# Altium footprint library Con DIN Circular.PcbLib: 41 footprints (part 3 of 3)
Each footprint in its own frame and in the unit in brackets; x right, y up, seen from the top. Pads: shape width x height; smd on the part's side, far side on the other; paste and mask are expansions set on the pad; w line width, h text height; cw(c..) or ccw(c..) is an arc to the next point about the centre after c.
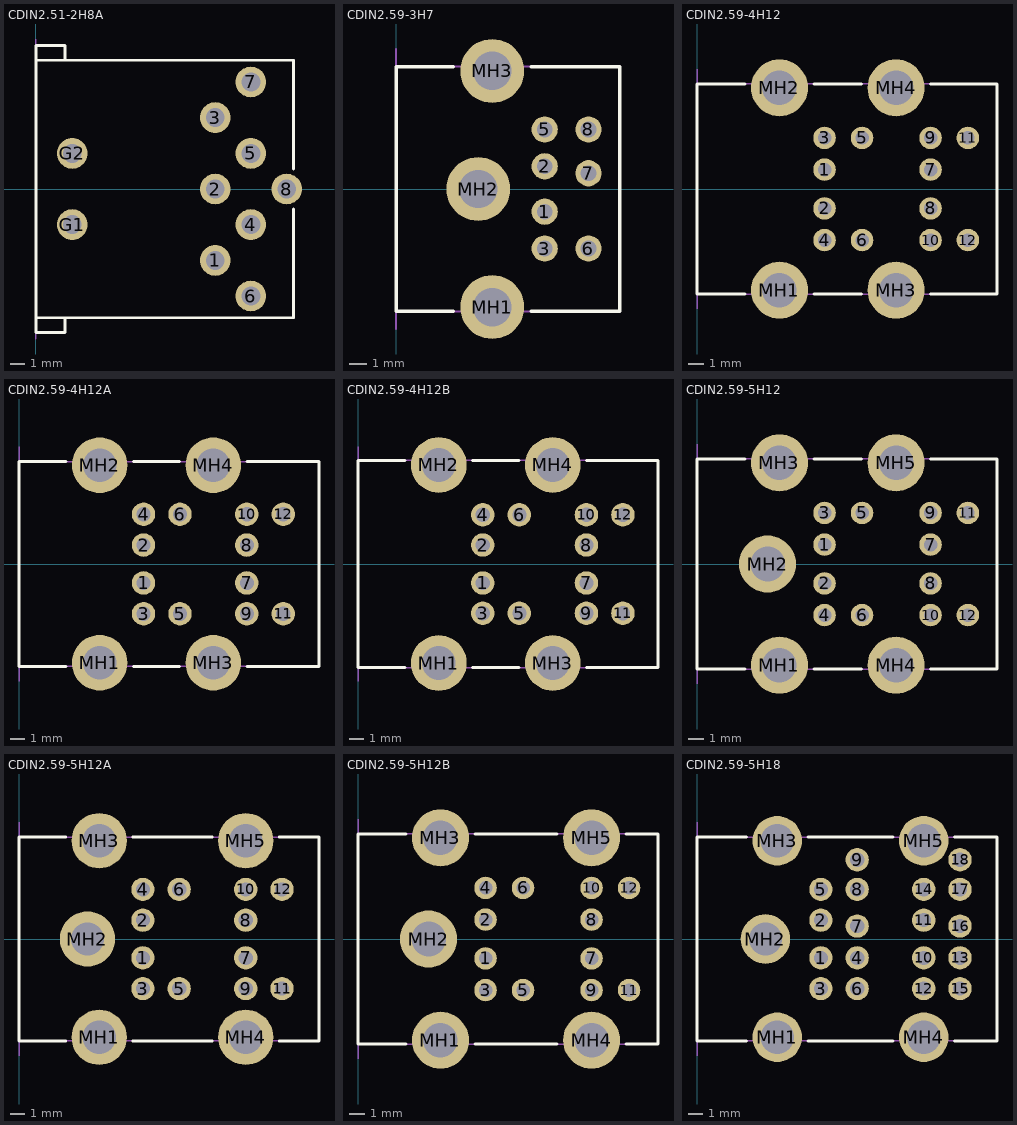
[diagram p2: the footprints below, top view; thin cyan lines are the x and y axes]

## CDIN2.51-2H8A [mm] "Connector; Circular DIN, Thru-Hole; 8 Position; Right Angle; Pitch 2.49/2.51 mm; Body 18.03 x 18.00 x 20.83 mm (WxTxH)"
height 20.83
pads (10):
  round 2.15 hole 1.32: 1(12.55,-5) 2(12.55,0) 3(12.55,5) 4(15.04,-2.49) 5(15.04,2.49) 6(15.04,-7.49) 7(15.04,7.49) 8(17.55,0) G1(2.54,-2.49) G2(2.54,2.49)
Top Overlay:
  lines w0.2: 2.03,-9.015 2.03,-10.035 0,-10.035 0,-9.015 ; 2.03,9.015 2.03,10.035 0,10.035 0,9.015 ; 18.03,-1.41 18.03,-9.015 0,-9.015 ; 18.03,1.41 18.03,9.015 0,9.015 ; 0,-9.015 0,9.015
Mechanical 1:
  lines w0.1: 0,-10.5 0,10.5
  text "PCB Edge" at 0.6,-8.6 h0.25

## CDIN2.59-3H7 [mm] "Connector; Circular DIN, Thru-Hole; 7 Position; Right Angle; Pitch 2.11/2.59 mm; Body 14 x 12.8 x 13 mm (WxTxH), Shielded"
height 13
pads (10):
  round 1.5 hole 0.9: 1(8.5,-1.295) 2(8.5,1.295) 3(8.5,-3.405) 5(8.5,3.405) 6(11,-3.405) 7(11,0.9) 8(11,3.405)
  round 3.65 hole 2.2: MH1(5.5,-6.75) MH2(4.7,0) MH3(5.5,6.75)
Top Overlay:
  lines w0.2: 3.275,-7 0,-7 0,7 3.275,7 ; 7.725,-6.99 12.8,-7 12.8,7 7.725,7
Mechanical 1:
  lines w0.1: 0,-8 0,8
  text "PCB Edge" at 0.6,-6.7 h0.25
Mechanical 13:
  lines w0.1: 0,-7 12.8,-7 12.8,7 0,7 0,-7
3D body: height 13, standoff 0, extent 0,-7 12.8,7

## CDIN2.59-4H12 [mm] "Connector; Circular DIN, Thru-Hole; 6x6 Position; Right Angle; Pitch 2.11/2.59 mm; Body 14 x 20 x 28.5 mm (WxTxH), Shielded"
height 28.5
pads (16):
  round 1.5 hole 0.9: 1(8.5,1.295) 2(8.5,-1.295) 3(8.5,3.405) 4(8.5,-3.405) 5(11,3.405) 6(11,-3.405) 7(15.57,1.295) 8(15.57,-1.295) 9(15.57,3.405) 10(15.57,-3.405) 11(18.06,3.405) 12(18.06,-3.405)
  round 3.8 hole 2.3: MH1(5.5,-6.75) MH2(5.5,6.75) MH3(13.27,-6.75) MH4(13.27,6.75)
Top Overlay:
  lines w0.2: 3.21,-7 0,-7 0,7 3.21,7 ; 7.81,-6.99 10.98,-6.99 ; 7.81,7 10.98,7 ; 15.58,-7 20,-7 20,7 15.58,7
Mechanical 1:
  lines w0.1: 0,-8 0,8
  text "PCB Edge" at 0.6,-6.7 h0.25
Mechanical 13:
  lines w0.1: 0,-7 0,7 20,7 20,-7 0,-7
3D body: height 28.5, standoff 0, extent 0,-7 20,7

## CDIN2.59-4H12A [mm] "Connector; Circular DIN, Thru-Hole; 6x6 Position; Right Angle; Pitch 2.11/2.59 mm; Body 14 x 20.5 x 28.62 mm (WxTxH), Shielded"
height 28.62
pads (16):
  round 1.6 hole 0.97: 1(8.51,-1.295) 2(8.51,1.295) 3(8.51,-3.405) 4(8.51,3.405) 5(11,-3.405) 6(11,3.405) 7(15.57,-1.295) 8(15.57,1.295) 9(15.57,-3.405) 10(15.57,3.405) 11(18.06,-3.405) 12(18.06,3.405)
  round 3.8 hole 2.29: MH1(5.51,-6.75) MH2(5.51,6.75) MH3(13.28,-6.75) MH4(13.28,6.75)
Top Overlay:
  lines w0.2: 3.21,-7 0,-7 0,7 3.21,7 ; 7.81,-6.99 10.98,-6.99 ; 7.81,7 10.98,7 ; 15.58,-7 20.5,-7 20.5,7 15.58,7
Mechanical 1:
  lines w0.1: 0,-8 0,8
  text "PCB Edge" at 0.6,-6.6 h0.25
Mechanical 13:
  lines w0.1: 0,-7 0,7 20.5,7 20.5,-7 0,-7
3D body: height 28.62, standoff 0, extent 0,-7 20.5,7

## CDIN2.59-4H12B [mm] "Connector; Circular DIN, Thru-Hole; 6x6 Position; Right Angle; Pitch 2.11/2.59 mm; Body 14.12 x 20.45 x 27.35 mm (WxTxH), Shielded"
height 27.35
pads (16):
  round 1.6 hole 0.97: 1(8.51,-1.295) 2(8.51,1.295) 3(8.51,-3.355) 4(8.51,3.355) 5(11,-3.355) 6(11,3.355) 7(15.57,-1.295) 8(15.57,1.295) 9(15.57,-3.355) 10(15.57,3.355) 11(18.06,-3.355) 12(18.06,3.355)
  round 3.8 hole 2.29: MH1(5.51,-6.75) MH2(5.51,6.75) MH3(13.28,-6.75) MH4(13.28,6.75)
Top Overlay:
  lines w0.2: 3.21,-7.06 0,-7.06 0,7.06 3.21,7.06 ; 7.81,-7.06 10.98,-7.06 ; 7.81,7.06 10.98,7.06 ; 15.58,-7.06 20.45,-7.06 20.45,7.06 15.58,7.06
Mechanical 1:
  lines w0.1: 0,-8 0,8
  text "PCB Edge" at 0.6,-6.7 h0.25
Mechanical 13:
  lines w0.1: 0,-7.06 0,7.06 20.45,7.06 20.45,-7.06 0,-7.06
3D body: height 27.35, standoff 0, extent 0,-7.06 20.45,7.06

## CDIN2.59-5H12 [mm] "Connector; Circular DIN, Thru-Hole; 6x6 Position; Right Angle; Pitch 2.11/2.59 mm; Body 14 x 20 x 28.5 mm (WxTxH), Shielded"
height 28.5
pads (17):
  round 1.5 hole 0.9: 1(8.5,1.295) 2(8.5,-1.295) 3(8.5,3.405) 4(8.5,-3.405) 5(11,3.405) 6(11,-3.405) 7(15.57,1.295) 8(15.57,-1.295) 9(15.57,3.405) 10(15.57,-3.405) 11(18.06,3.405) 12(18.06,-3.405)
  round 3.8 hole 2.3: MH1(5.5,-6.75) MH2(4.7,0) MH3(5.5,6.75) MH4(13.27,-6.75) MH5(13.27,6.75)
Top Overlay:
  lines w0.2: 3.21,-7 0,-7 0,7 3.21,7 ; 7.81,-6.99 10.98,-6.99 ; 7.81,7 10.98,7 ; 15.58,-7 20,-7 20,7 15.58,7
Mechanical 1:
  lines w0.1: 0,-8 0,8
  text "PCB Edge" at 0.6,-6.7 h0.25
Mechanical 13:
  lines w0.1: 0,-7 0,7 20,7 20,-7 0,-7
3D body: height 28.5, standoff 0, extent 0,-7 20,7

## CDIN2.59-5H12A [mm] "Connector; Circular DIN, Thru-Hole; 6x6 Position; Right Angle; Pitch 2.11/2.59 mm; Body 14 x 20.6 x 28.62 mm (WxTxH), Shielded, Special PCB Retention"
height 28.62
pads (17):
  round 1.6 hole 0.97: 1(8.51,-1.295) 2(8.51,1.295) 3(8.51,-3.405) 4(8.51,3.405) 5(11,-3.405) 6(11,3.405) 7(15.57,-1.295) 8(15.57,1.295) 9(15.57,-3.405) 10(15.57,3.405) 11(18.06,-3.405) 12(18.06,3.405)
  round 3.8 hole 2.29: MH1(5.51,-6.75) MH2(4.7,0) MH3(5.51,6.75) MH4(15.57,-6.75) MH5(15.57,6.75)
Top Overlay:
  lines w0.2: 3.21,-7 0,-7 0,7 3.21,7 ; 7.81,-6.99 13.27,-6.99 ; 7.81,7 13.27,7 ; 17.87,-7 20.6,-7 20.6,7 17.87,7
Mechanical 1:
  lines w0.1: 0,-8 0,8
  text "PCB Edge" at 0.6,-6.6 h0.25
Mechanical 13:
  lines w0.1: 0,-7 20.6,-7 20.6,7 0,7 0,-7
3D body: height 28.62, standoff 0, extent 0,-7 20.6,7

## CDIN2.59-5H12B [mm] "Connector; Circular DIN, Thru-Hole; 6x6 Position; Right Angle; Pitch 2.11/2.59 mm; Body 14 x 20 x 28.5 mm (WxTxH), Shielded"
height 28.5
pads (17):
  round 1.5 hole 0.9: 1(8.5,-1.295) 2(8.5,1.295) 3(8.5,-3.405) 4(8.5,3.405) 5(11,-3.405) 6(11,3.405) 7(15.57,-1.295) 8(15.57,1.295) 9(15.57,-3.405) 10(15.57,3.405) 11(18.07,-3.405) 12(18.07,3.405)
  round 3.8 hole 2.3: MH1(5.5,-6.75) MH2(4.7,0) MH3(5.5,6.75) MH4(15.57,-6.75) MH5(15.57,6.75)
Top Overlay:
  lines w0.2: 3.21,-7 0,-7 0,7 3.21,7 ; 7.81,-6.99 13.27,-6.99 ; 7.81,7 13.27,7 ; 17.87,-7 20,-7 20,7 17.87,7
Mechanical 1:
  lines w0.1: 0,-8 0,8
  text "PCB Edge" at 0.6,-6.7 h0.25
Mechanical 13:
  lines w0.1: 0,-7 20,-7 20,7 0,7 0,-7
3D body: height 28.5, standoff 0, extent 0,-7 20,7

## CDIN2.59-5H18 [mm] "Connector; Circular DIN, Thru-Hole; 9x9 Position; Right Angle; Pitch 2.11/2.59 mm; Body 14 x 20.6 x 28.62 mm (WxTxH), Shielded"
height 28.62
pads (23):
  round 1.6 hole 0.97: 1(8.51,-1.295) 2(8.51,1.295) 3(8.51,-3.405) 4(11,-1.295) 5(8.51,3.405) 6(11,-3.405) 7(11,0.89) 8(11,3.405) 9(11,5.44) 10(15.57,-1.295) 11(15.57,1.295) 12(15.57,-3.405) 13(18.06,-1.295) 14(15.57,3.405) 15(18.06,-3.405) 16(18.06,0.89) 17(18.06,3.405) 18(18.06,5.44)
  round 3.4 hole 2.29: MH1(5.51,-6.745) MH2(4.7,0) MH3(5.51,6.745) MH4(15.57,-6.745) MH5(15.57,6.745)
Top Overlay:
  lines w0.2: 3.41,-7 0,-7 0,7 3.41,7 ; 7.61,-6.99 13.47,-7 ; 7.61,7 13.47,7 ; 17.67,-7 20.6,-7 20.6,7 17.67,7
Mechanical 1:
  lines w0.1: 0,-8 0,8
  text "PCB Edge" at 0.6,-6.7 h0.25
Mechanical 13:
  lines w0.1: 0,-7 0,7 20.6,7 20.6,-7 0,-7
3D body: height 28.62, standoff 0, extent 0,-7 20.6,7